# Altium footprint library indication.PcbLib: 19 footprints (part 1 of 2)
Each footprint in its own frame and in the unit in brackets; x right, y up, seen from the top. Pads: shape width x height; smd on the part's side, far side on the other; paste and mask are expansions set on the pad; w line width, h text height; cw(c..) or ccw(c..) is an arc to the next point about the centre after c.
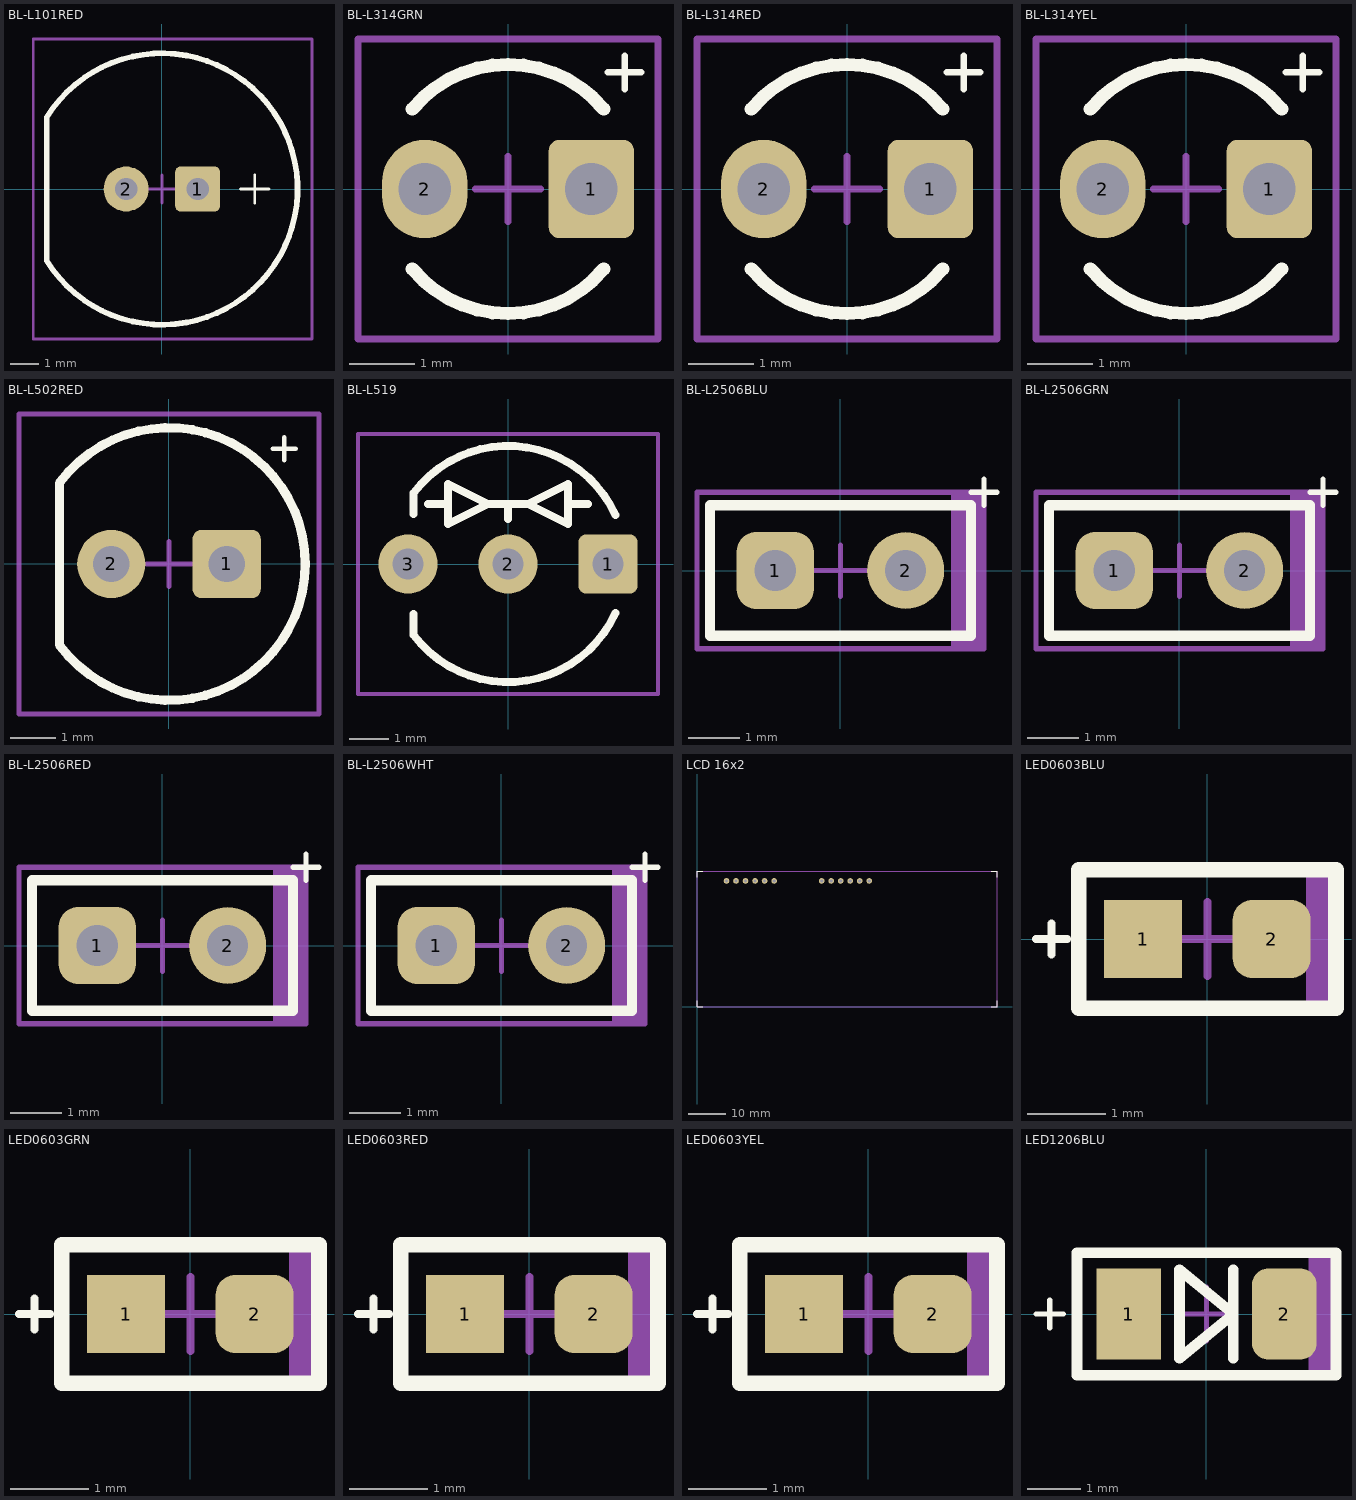
[diagram p0: the footprints below, top view; thin cyan lines are the x and y axes]

## BL-L101RED [mm] "Chip Resistor, 2-Leads, Body 3,13x1,55mm, IPC Medium Density"
height 0.7
pads (2):
  rrect25% 1.6x1.6 hole 0.8: 1(1.27,0)
  round 1.6 hole 0.8: 2(-1.27,0)
Top Overlay:
  lines w0.1: 2.794,0 3.81,0 ; 3.302,-0.508 3.302,0.508
  lines w0.2: -4.092,-2.558 ccw(c0,0) -4.092,2.558 -4.092,-2.558
Mechanical 13:
  lines w0.1: -4.572,-5.334 5.334,-5.334 5.334,5.334 -4.572,5.334 -4.572,-5.334
  text ".Designator" at -3.302,-1.016 h2
  text "+" at -3.048,1.778 h1.52
Mechanical 15:
  lines w0.05: -4.572,-5.334 -4.572,5.334 5.334,5.334 5.334,-5.334 -4.572,-5.334
  lines w0.1: -0.5,0 0.5,0 ; 0,-0.5 0,0.5
3D body: height 9, standoff 2, extent -4.092,-4.092 4.092,4.092
3D body: height 2.1, standoff 0.1, extent -4.572,-4.572 4.572,4.572

## BL-L314GRN [mm] "Chip Resistor, 2-Leads, Body 3,13x1,55mm, IPC Medium Density"
height 0.7
pads (2):
  rrect25% 1.3x1.5 hole 0.8: 1(1.27,0)
  oval 1.3x1.5 hole 0.8: 2(-1.27,0)
Top Overlay:
  lines w0.1: 1.524,1.778 2.032,1.778 ; 1.778,1.524 1.778,2.032
  lines w0.2: -1.46,-1.216 ccw(c0,0) 1.46,-1.216 ; -1.46,1.216 cw(c0,0) 1.46,1.216
Mechanical 13:
  lines w0.1: -2.286,-2.286 2.286,-2.286 2.286,2.286 -2.286,2.286 -2.286,-2.286
  text "+" at -1.778,0.889 h1.52
  text ".Designator" at -1.651,-0.508 h1
Mechanical 15:
  lines w0.05: -2.286,-2.286 2.286,-2.286 2.286,2.286 -2.286,2.286 -2.286,-2.286
  lines w0.1: -0.5,0 0.5,0 ; 0,-0.5 0,0.5
3D body: height 6.1, standoff 1, extent -1.512,-1.521 1.524,1.521
3D body: height 1, standoff 0.2, extent -2.032,-2.032 2.032,2.032

## BL-L314RED [mm] "Chip Resistor, 2-Leads, Body 3,13x1,55mm, IPC Medium Density"
height 0.7
pads (2):
  rrect25% 1.3x1.5 hole 0.8: 1(1.27,0)
  oval 1.3x1.5 hole 0.8: 2(-1.27,0)
Top Overlay:
  lines w0.1: 1.524,1.778 2.032,1.778 ; 1.778,1.524 1.778,2.032
  lines w0.2: -1.46,-1.216 ccw(c0,0) 1.46,-1.216 ; -1.46,1.216 cw(c0,0) 1.46,1.216
Mechanical 13:
  lines w0.1: -2.286,-2.286 -2.286,2.286 2.286,2.286 2.286,-2.286 -2.286,-2.286
  text ".Designator" at -1.651,-0.508 h1
  text "+" at -1.778,0.889 h1.52
Mechanical 15:
  lines w0.05: -2.286,-2.286 -2.286,2.286 2.286,2.286 2.286,-2.286 -2.286,-2.286
  lines w0.1: -0.5,0 0.5,0 ; 0,-0.5 0,0.5
3D body: height 1, standoff 0.2, extent -2.032,-2.032 2.032,2.032
3D body: height 5.6, standoff 1, extent -1.512,-1.521 1.524,1.521

## BL-L314YEL [mm] "Chip Resistor, 2-Leads, Body 3,13x1,55mm, IPC Medium Density"
height 0.7
pads (2):
  rrect25% 1.3x1.5 hole 0.8: 1(1.27,0)
  oval 1.3x1.5 hole 0.8: 2(-1.27,0)
Top Overlay:
  lines w0.1: 1.524,1.778 2.032,1.778 ; 1.778,1.524 1.778,2.032
  lines w0.2: -1.46,-1.216 ccw(c0,0) 1.46,-1.216 ; -1.46,1.216 cw(c0,0) 1.46,1.216
Mechanical 13:
  lines w0.1: -2.286,-2.286 2.286,-2.286 2.286,2.286 -2.286,2.286 -2.286,-2.286
  text "+" at -1.778,0.889 h1.52
  text ".Designator" at -1.651,-0.508 h1
Mechanical 15:
  lines w0.05: -2.286,-2.286 2.286,-2.286 2.286,2.286 -2.286,2.286 -2.286,-2.286
  lines w0.1: -0.5,0 0.5,0 ; 0,-0.5 0,0.5
3D body: height 6.1, standoff 1, extent -1.512,-1.521 1.524,1.521
3D body: height 1, standoff 0.2, extent -2.032,-2.032 2.032,2.032

## BL-L502RED [mm] "Chip Resistor, 2-Leads, Body 3,13x1,55mm, IPC Medium Density"
height 0.7
pads (2):
  rrect25% 1.5x1.5 hole 0.8: 1(1.27,0)
  round 1.5 hole 0.8: 2(-1.27,0)
Top Overlay:
  lines w0.1: 2.286,2.54 2.794,2.54 ; 2.54,2.286 2.54,2.794
  lines w0.2: -2.413,-1.778 -2.413,1.778 ; -2.4,-1.8 ccw(c0,0) -2.4,1.8
Mechanical 13:
  lines w0.1: -3.302,-3.302 3.302,-3.302 3.302,3.302 -3.302,3.302 -3.302,-3.302
  text "+" at -1.905,1.016 h1.52
  text ".Designator" at -2.286,-0.635 h1.4
Mechanical 15:
  lines w0.05: -3.302,-3.302 3.302,-3.302 3.302,3.302 -3.302,3.302 -3.302,-3.302
  lines w0.1: -0.5,0 0.5,0 ; 0,-0.5 0,0.5
3D body "LED5mm.STEP": height 8.82, standoff -4, extent -2.95,-2.95 2.95,2.95

## BL-L519 [mm] "Chip Resistor, 2-Leads, Body 3,13x1,55mm, IPC Medium Density"
height 0.7
pads (3):
  rrect25% 1.5x1.5 hole 0.8: 1(2.54,0)
  round 1.5 hole 0.8: 2(0,0) 3(-2.54,0)
Top Overlay:
  lines w0.2: -2.4,-1.27 -2.4,-1.8 ccw(c0,0) 2.731,-1.241 ; -2.4,1.27 -2.4,1.8 cw(c0,0) 2.731,1.241 ; -2.032,1.524 -1.524,1.524 ; 0,1.143 0,1.524 ; 1.524,1.524 2.032,1.524 ; -0.508,1.524 0,1.524 ; -0.508,1.524 -1.524,2.032 -1.524,1.016 -0.508,1.524 ; 0,1.524 0.508,1.524 ; 0.508,1.524 1.524,1.016 1.524,2.032 0.508,1.524
Mechanical 13:
  lines w0.1: -3.81,-3.302 3.81,-3.302 3.81,3.302 -3.81,3.302 -3.81,-3.302
  text ".Designator" at -2.286,-0.635 h1.4
Mechanical 15:
  lines w0.05: -3.81,-3.302 3.81,-3.302 3.81,3.302 -3.81,3.302 -3.81,-3.302
  lines w0.1: -0.5,0 0.5,0 ; 0,-0.5 0,0.5
3D body "LED5mm.STEP": height 8.82, standoff -4, extent -2.95,-2.95 2.95,2.95

## BL-L2506BLU [mm] "Chip Resistor, 2-Leads, Body 3,13x1,55mm, IPC Medium Density"
height 0.7
pads (2):
  rrect50% 1.5x1.5 hole 0.8: 1(-1.27,0)
  round 1.5 hole 0.8: 2(1.27,0)
Top Overlay:
  lines w0.1: 2.54,1.524 3.048,1.524 ; 2.794,1.27 2.794,1.778
  lines w0.2: -2.54,-1.27 -2.54,1.27 2.54,1.27 2.54,-1.27 -2.54,-1.27
Mechanical 13:
  region: 2.794,1.524 2.159,1.524 2.159,-1.524 2.794,-1.524
  lines w0.1: -2.794,-1.524 -2.794,1.524 2.794,1.524 2.794,-1.524 -2.794,-1.524
  text ".Designator" at -2.413,-0.508 h1.1
Mechanical 15:
  lines w0.05: -2.794,-1.524 -2.794,1.524 2.794,1.524 2.794,-1.524 -2.794,-1.524
  lines w0.1: -0.5,0 0.5,0 ; 0,-0.5 0,0.5
3D body: height 1, standoff 0.1, extent -2.54,-1.27 2.54,1.27
3D body: height 6.3, standoff 1, extent -2.54,-1.016 2.54,1.016

## BL-L2506GRN [mm] "Chip Resistor, 2-Leads, Body 3,13x1,55mm, IPC Medium Density"
height 0.7
pads (2):
  rrect50% 1.5x1.5 hole 0.8: 1(-1.27,0)
  round 1.5 hole 0.8: 2(1.27,0)
Top Overlay:
  lines w0.1: 2.54,1.524 3.048,1.524 ; 2.794,1.27 2.794,1.778
  lines w0.2: -2.54,-1.27 2.54,-1.27 2.54,1.27 -2.54,1.27 -2.54,-1.27
Mechanical 13:
  region: 2.794,1.524 2.159,1.524 2.159,-1.524 2.794,-1.524
  lines w0.1: -2.794,-1.524 2.794,-1.524 2.794,1.524 -2.794,1.524 -2.794,-1.524
  text ".Designator" at -2.413,-0.508 h1.1
Mechanical 15:
  lines w0.05: -2.794,-1.524 2.794,-1.524 2.794,1.524 -2.794,1.524 -2.794,-1.524
  lines w0.1: -0.5,0 0.5,0 ; 0,-0.5 0,0.5
3D body: height 6.3, standoff 1, extent -2.54,-1.016 2.54,1.016
3D body: height 1, standoff 0.1, extent -2.54,-1.27 2.54,1.27

## BL-L2506RED [mm] "Chip Resistor, 2-Leads, Body 3,13x1,55mm, IPC Medium Density"
height 0.7
pads (2):
  rrect50% 1.5x1.5 hole 0.8: 1(-1.27,0)
  round 1.5 hole 0.8: 2(1.27,0)
Top Overlay:
  lines w0.1: 2.54,1.524 3.048,1.524 ; 2.794,1.27 2.794,1.778
  lines w0.2: -2.54,-1.27 -2.54,1.27 2.54,1.27 2.54,-1.27 -2.54,-1.27
Mechanical 13:
  region: 2.794,1.524 2.159,1.524 2.159,-1.524 2.794,-1.524
  lines w0.1: -2.794,-1.524 -2.794,1.524 2.794,1.524 2.794,-1.524 -2.794,-1.524
  text ".Designator" at -2.413,-0.508 h1.1
Mechanical 15:
  lines w0.05: -2.794,-1.524 -2.794,1.524 2.794,1.524 2.794,-1.524 -2.794,-1.524
  lines w0.1: -0.5,0 0.5,0 ; 0,-0.5 0,0.5
3D body: height 1, standoff 0.1, extent -2.54,-1.27 2.54,1.27
3D body: height 6.3, standoff 1, extent -2.54,-1.016 2.54,1.016

## BL-L2506WHT [mm] "Chip Resistor, 2-Leads, Body 3,13x1,55mm, IPC Medium Density"
height 0.7
pads (2):
  rrect50% 1.5x1.5 hole 0.8: 1(-1.27,0)
  round 1.5 hole 0.8: 2(1.27,0)
Top Overlay:
  lines w0.1: 2.54,1.524 3.048,1.524 ; 2.794,1.27 2.794,1.778
  lines w0.2: -2.54,-1.27 -2.54,1.27 2.54,1.27 2.54,-1.27 -2.54,-1.27
Mechanical 13:
  region: 2.794,1.524 2.159,1.524 2.159,-1.524 2.794,-1.524
  lines w0.1: -2.794,-1.524 -2.794,1.524 2.794,1.524 2.794,-1.524 -2.794,-1.524
  text ".Designator" at -2.413,-0.508 h1.1
Mechanical 15:
  lines w0.05: -2.794,-1.524 -2.794,1.524 2.794,1.524 2.794,-1.524 -2.794,-1.524
  lines w0.1: -0.5,0 0.5,0 ; 0,-0.5 0,0.5
3D body: height 1, standoff 0.1, extent -2.54,-1.27 2.54,1.27
3D body: height 6.3, standoff 1, extent -2.54,-1.016 2.54,1.016

## LCD 16x2 [mm]
pads (12):
  round 1.5 hole 0.9: 1(7.874,33.528) 2(10.414,33.528) 3(12.954,33.528) 4(15.494,33.528) 5(18.034,33.528) 6(20.574,33.528) 11(33.274,33.528) 12(35.814,33.528) 13(38.354,33.528) 14(40.894,33.528) 15(43.434,33.528) 16(45.974,33.528)
Top Overlay:
  lines w0.203: 0,1.524 0,0 1.524,0 ; 0,34.544 0,36.068 1.524,36.068 ; 78.562,0 80.086,0 80.086,1.524 ; 78.562,36.068 80.086,36.068 80.086,34.544
Mechanical 13:
  lines w0.203: 0,0 80.086,0 80.086,36.068 0,36.068 0,0
  text ".Designator" at 21.209,20.32 h3

## LED0603BLU [mm]
height 0.55
pads (2):
  rect 1x1 smd: 1(-0.825,0)
  rrect50% 1x1 smd: 2(0.825,0)
Top Overlay:
  lines w0.1: -2.2,0 -1.8,0 ; -2,-0.2 -2,0.2
  lines w0.2: -1.651,-0.889 1.651,-0.889 1.651,0.889 -1.651,0.889 -1.651,-0.889
Mechanical 13:
  region: 1.651,0.889 1.27,0.889 1.27,-0.889 1.651,-0.889
  lines w0.1: -1.651,-0.889 1.651,-0.889 1.651,0.889 -1.651,0.889 -1.651,-0.889
  text ".Designator" at -1.43,-0.38 h0.7
Mechanical 15:
  lines w0.05: -1.651,-0.889 1.651,-0.889 1.651,0.889 -1.651,0.889 -1.651,-0.889
  lines w0.1: -0.475,0 0.475,0 ; 0,-0.475 0,0.475
3D body: height 0.55, standoff 0, extent 0.575,-0.475 0.875,0.475
3D body: height 0.55, standoff 0, extent -0.875,-0.475 -0.575,0.475
3D body: height 0.55, standoff 0, extent -0.575,-0.475 0.575,0.475

## LED0603GRN [mm]
height 0.55
pads (2):
  rect 1x1 smd: 1(-0.825,0)
  rrect50% 1x1 smd: 2(0.825,0)
Top Overlay:
  lines w0.1: -2.2,0 -1.8,0 ; -2,-0.2 -2,0.2
  lines w0.2: -1.651,-0.889 -1.651,0.889 1.651,0.889 1.651,-0.889 -1.651,-0.889
Mechanical 13:
  region: 1.651,0.889 1.27,0.889 1.27,-0.889 1.651,-0.889
  lines w0.1: -1.651,-0.889 -1.651,0.889 1.651,0.889 1.651,-0.889 -1.651,-0.889
  text ".Designator" at -1.43,-0.38 h0.7
Mechanical 15:
  lines w0.05: -1.651,-0.889 -1.651,0.889 1.651,0.889 1.651,-0.889 -1.651,-0.889
  lines w0.1: -0.475,0 0.475,0 ; 0,-0.475 0,0.475
3D body: height 0.55, standoff 0, extent -0.575,-0.475 0.575,0.475
3D body: height 0.55, standoff 0, extent -0.875,-0.475 -0.575,0.475
3D body: height 0.55, standoff 0, extent 0.575,-0.475 0.875,0.475

## LED0603RED [mm]
height 0.55
pads (2):
  rect 1x1 smd: 1(-0.825,0)
  rrect50% 1x1 smd: 2(0.825,0)
Top Overlay:
  lines w0.1: -2.2,0 -1.8,0 ; -2,-0.2 -2,0.2
  lines w0.2: -1.651,-0.889 -1.651,0.889 1.651,0.889 1.651,-0.889 -1.651,-0.889
Mechanical 13:
  region: 1.651,0.889 1.27,0.889 1.27,-0.889 1.651,-0.889
  lines w0.1: -1.651,-0.889 -1.651,0.889 1.651,0.889 1.651,-0.889 -1.651,-0.889
  text ".Designator" at -1.43,-0.38 h0.7
Mechanical 15:
  lines w0.05: -1.651,-0.889 -1.651,0.889 1.651,0.889 1.651,-0.889 -1.651,-0.889
  lines w0.1: -0.475,0 0.475,0 ; 0,-0.475 0,0.475
3D body: height 0.55, standoff 0, extent -0.575,-0.475 0.575,0.475
3D body: height 0.55, standoff 0, extent -0.875,-0.475 -0.575,0.475
3D body: height 0.55, standoff 0, extent 0.575,-0.475 0.875,0.475

## LED0603YEL [mm]
height 0.55
pads (2):
  rect 1x1 smd: 1(-0.825,0)
  rrect50% 1x1 smd: 2(0.825,0)
Top Overlay:
  lines w0.1: -2.2,0 -1.8,0 ; -2,-0.2 -2,0.2
  lines w0.2: -1.651,-0.889 1.651,-0.889 1.651,0.889 -1.651,0.889 -1.651,-0.889
Mechanical 13:
  region: 1.651,0.889 1.27,0.889 1.27,-0.889 1.651,-0.889
  lines w0.1: -1.651,-0.889 1.651,-0.889 1.651,0.889 -1.651,0.889 -1.651,-0.889
  text ".Designator" at -1.43,-0.38 h0.7
Mechanical 15:
  lines w0.05: -1.651,-0.889 1.651,-0.889 1.651,0.889 -1.651,0.889 -1.651,-0.889
  lines w0.1: -0.475,0 0.475,0 ; 0,-0.475 0,0.475
3D body: height 0.55, standoff 0, extent 0.575,-0.475 0.875,0.475
3D body: height 0.55, standoff 0, extent -0.875,-0.475 -0.575,0.475
3D body: height 0.55, standoff 0, extent -0.575,-0.475 0.575,0.475

## LED1206BLU [mm] "Chip Resistor, 2-Leads, Body 3,13x1,55mm, IPC Medium Density"
height 0.7
pads (2):
  rect 1.2x1.7 smd: 1(-1.45,0)
  rrect50% 1.2x1.7 smd: 2(1.45,0)
Top Overlay:
  lines w0.1: -3.175,0 -2.667,0 ; -2.921,-0.254 -2.921,0.254
  lines w0.2: 0.5,-0.825 0.5,0.825 ; -2.413,-1.143 -2.413,1.143 2.413,1.143 2.413,-1.143 -2.413,-1.143 ; -0.5,-0.825 -0.5,0.825 0.5,0 -0.5,-0.825
Mechanical 13:
  region: 2.413,1.143 1.905,1.143 1.905,-1.143 2.413,-1.143
  lines w0.1: -2.413,-1.143 -2.413,1.143 2.413,1.143 2.413,-1.143 -2.413,-1.143
  text ".Designator" at -2.06,-0.47 h1
Mechanical 15:
  lines w0.05: -2.413,-1.143 2.413,-1.143 2.413,1.143 -2.413,1.143 -2.413,-1.143
  lines w0.1: -0.5,0 0.5,0 ; 0,-0.5 0,0.5
3D body: height 0.7, standoff 0, extent -1.125,-0.825 1.125,0.825
3D body: height 0.7, standoff 0, extent -1.625,-0.825 -1.125,0.825
3D body: height 0.7, standoff 0, extent 1.125,-0.825 1.625,0.825